# Altium integrated library CommonLib.IntLib: 219 symbols
Pins are listed as number, name and electrical type; pins without a type are passive.

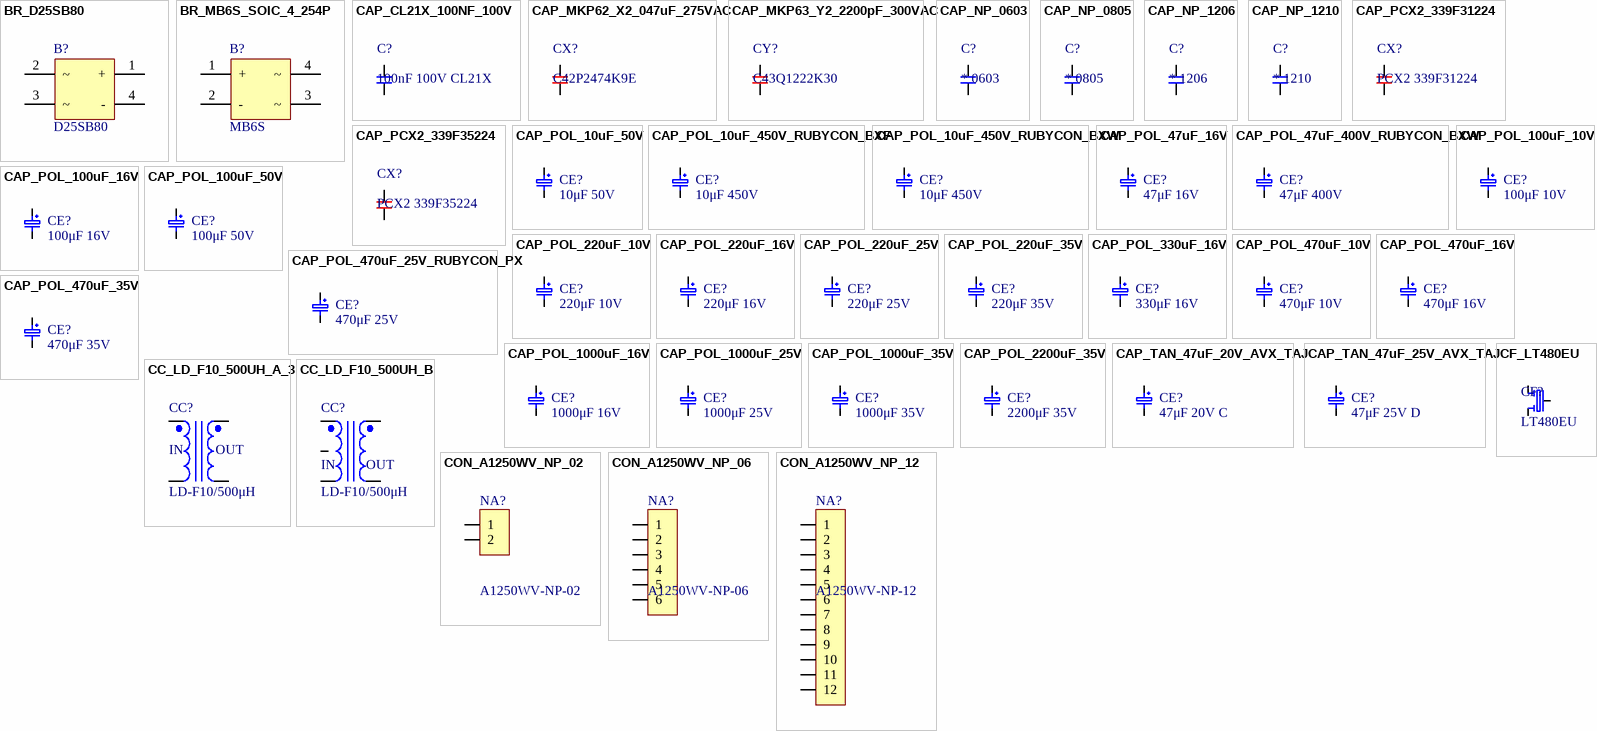
[diagram p0: symbols BR_D25SB80 to CON_A1250WV_NP_12]

## BR_D25SB80
designator B?, comment D25SB80
LRC 25A
footprint D25SBXX
pins: 1 +, 2 ~, 3 ~, 4 -

## BR_MB6S_SOIC_4_254P
designator B?, comment MB6S
Fairchild
footprint SOIC_4_254P_MBXS (SOIC_4_254P  6.2mm)
pins: 1 +, 2 -, 3 ~, 4 ~

## CAP_CL21X_100NF_100V
designator C?, comment 100nF 100V CL21X
CL21X_100NF_100V
footprint CAP_CL21X_073_040_050_D08_W
footprint CAP_CL21X_073_040_050_D08 (CL21X_073_040_050_D08)
pins: 1, 2

## CAP_MKP62_X2_047uF_275VAC
designator CX?, comment C42P2474K9E
X2 0.47uF 275VAC
footprint CAP_MKP62_265_110_225_D08 (MKP62 XiaMen Fara)
pins: 1, 2

## CAP_MKP63_Y2_2200pF_300VAC
designator CY?, comment C43Q1222K30
XiaMen FaRa Y2
footprint CAP_MKP63_105_040_090_D06 (MKP63_105_040_090_D06)
pins: 1, 2

## CAP_NP_0603
designator C?, comment * 0603
Yageo
footprint CAP_0603 (0603)
pins: 1, 2

## CAP_NP_0805
designator C?, comment * 0805
Yageo
footprint CAP_0805 (0805)
pins: 1, 2

## CAP_NP_1206
designator C?, comment * 1206
Yageo
footprint CAP_1206 (1206)
pins: 1, 2

## CAP_NP_1210
designator C?, comment * 1210
Yageo
footprint CAP_1210 (1210)
pins: 1, 2

## CAP_PCX2_339F31224
designator CX?, comment PCX2 339F31224
X2 220nF 305VAC
footprint CAP_PCX2_339_180_90_150_D08 (Pilkor PCX2 339)
pins: 1, 2

## CAP_PCX2_339F35224
designator CX?, comment PCX2 339F35224
X2 220nF 305VAC
footprint CAP_PCX2_339_180_90_150_D08_W (Pilkor PCX2 339)
pins: 1, 2

## CAP_POL_10uF_50V
designator CE?, comment 10μF 50V
Rubycon YXF 050_5_20
footprint CAP_YXF_050_5_20 (CAP POL)
pins: 1, 2

## CAP_POL_10uF_450V_RUBYCON_BXF
designator CE?, comment 10μF 450V
Rubycon YXF 050_5_20
footprint CAP_YXF_100_6_50 (CAP POL)
pins: 1, 2

## CAP_POL_10uF_450V_RUBYCON_BXW
designator CE?, comment 10μF 450V
Rubycon YXF 050_5_20
footprint CAP_YXF_100_6_50 (CAP POL)
pins: 1, 2

## CAP_POL_47uF_16V
designator CE?, comment 47μF 16V
Rubycon YXF 050_5_20
footprint CAP_YXF_050_5_20 (CAP POL)
pins: 1, 2

## CAP_POL_47uF_400V_RUBYCON_BXW
designator CE?, comment 47μF 400V
Rubycon BXW 160_8_75_X200_H
footprint CAP_BXW_160_8_75_X200_H (CAP POL)
footprint CAP_YXF_160_8_75 (CAP POL)
pins: 1, 2

## CAP_POL_100uF_10V
designator CE?, comment 100μF 10V
Rubycon YXF 050_5_20
footprint CAP_YXF_050_5_20 (CAP POL)
pins: 1, 2

## CAP_POL_100uF_16V
designator CE?, comment 100μF 16V
Rubycon YXF 063_5_25
footprint CAP_YXF_063_5_25 (CAP POL)
pins: 1, 2

## CAP_POL_100uF_50V
designator CE?, comment 100μF 50V
Rubycon YXF 080_6_35
footprint CAP_YXF_080_6_35 (CAP POL)
pins: 1, 2

## CAP_POL_220uF_10V
designator CE?, comment 220μF 10V
Rubycon YXF 063_5_25
footprint CAP_YXF_063_5_25 (CAP POL)
pins: 1, 2

## CAP_POL_220uF_16V
designator CE?, comment 220μF 16V
Rubycon YXF 080_6_35
footprint CAP_YXF_080_6_35 (CAP POL)
pins: 1, 2

## CAP_POL_220uF_25V
designator CE?, comment 220μF 25V
Rubycon YXF 080_6_35
footprint CAP_YXF_080_6_35 (CAP POL)
pins: 1, 2

## CAP_POL_220uF_35V
designator CE?, comment 220μF 35V
Rubycon YXF 100_6_50
footprint CAP_YXF_100_6_50 (CAP POL)
pins: 1, 2

## CAP_POL_330uF_16V
designator CE?, comment 330μF 16V
Rubycon YXF 080_6_35
footprint CAP_YXF_080_6_35 (CAP POL)
pins: 1, 2

## CAP_POL_470uF_10V
designator CE?, comment 470μF 10V
Rubycon YXF 080_6_35
footprint CAP_YXF_080_6_35 (CAP POL)
pins: 1, 2

## CAP_POL_470uF_16V
designator CE?, comment 470μF 16V
Rubycon YXF 080_6_35
footprint CAP_YXF_080_6_35 (CAP POL)
pins: 1, 2

## CAP_POL_470uF_25V_RUBYCON_PX
designator CE?, comment 470μF 25V
CAP_YXF_080_6_35
footprint CAP_YXF_080_6_35 (CAP POL)
pins: 1, 2

## CAP_POL_470uF_35V
designator CE?, comment 470μF 35V
Rubycon YXF 100_6_50
footprint CAP_YXF_100_6_50 (CAP POL)
pins: 1, 2

## CAP_POL_1000uF_16V
designator CE?, comment 1000μF 16V
Rubycon YXF 100_6_50
footprint CAP_YXF_100_6_50 (CAP POL)
pins: 1, 2

## CAP_POL_1000uF_25V
designator CE?, comment 1000μF 25V
Rubycon YXF 125_6_50
footprint CAP_YXF_125_6_50 (CAP POL)
pins: 1, 2

## CAP_POL_1000uF_35V
designator CE?, comment 1000μF 35V
Rubycon YXF 125_6_50
footprint CAP_YXF_125_6_50 (CAP POL)
pins: 1, 2

## CAP_POL_2200uF_35V
designator CE?, comment 2200μF 35V
Rubycon YXF 160_8_75
footprint CAP_YXF_160_8_75 (CAP POL)
pins: 1, 2

## CAP_TAN_47uF_20V_AVX_TAJ
designator CE?, comment 47μF 20V C
AVX TAJ 47μF 20V C
footprint TANTALUM_6032_28 (C 6032-28)
pins: 1, 2

## CAP_TAN_47uF_25V_AVX_TAJ
designator CE?, comment 47μF 25V D
AVX TAJ 47μF 25V D
footprint TANTALUM_7343_31 (D 7343-31)
pins: 1, 2

## CC_LD_F10_500UH_A_3
designator CC?, comment LD-F10/500μH
CC_LD_F10_500UH
footprint CC_LD_F10_500UH_A_3
pins: 1, 2, 3, 4
text: IN; OUT

## CC_LD_F10_500UH_B
designator CC?, comment LD-F10/500μH
CC_LD_F10_500UH
footprint CC_LD_F10_500UH_B
pins: 1, 2, 3, 4, 6
text: IN; OUT

## CF_LT480EU
designator CF?, comment LT480EU
CF_LT480EU
footprint CF_LT480EU
pins: 1 Input, 2 Output, 3 GND

## CON_A1250WV_NP_02
designator NA?, comment A1250WV-NP-02
JAT A1250 SERIES 1.25mm
footprint CON_A1250WV_NP_02 (JAT A1250 SERIES)
pins: 1, 2

## CON_A1250WV_NP_06
designator NA?, comment A1250WV-NP-06
JAT A1250 SERIES 1.25mm
footprint CON_A1250WV_NP_06 (JAT A1250 SERIES)
pins: 1, 2, 3, 4, 5, 6

## CON_A1250WV_NP_12
designator NA?, comment A1250WV-NP-12
JAT A1250 SERIES 1.25mm
footprint CON_A1250WV_NP_12 (JAT A1250 SERIES)
pins: 1, 2, 3, 4, 5, 6, 7, 8, 9, 10, 11, 12

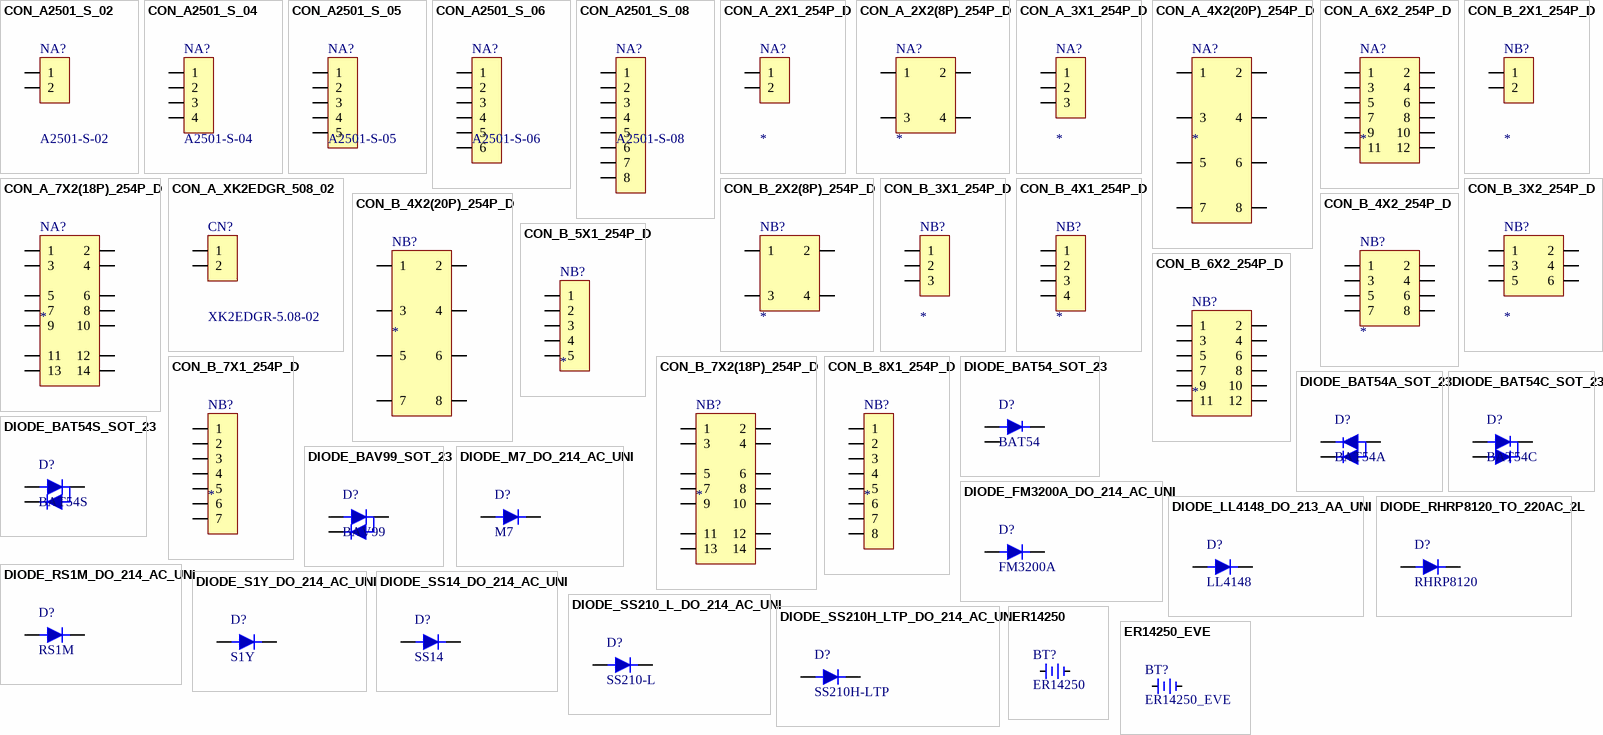
[diagram p1: symbols CON_A2501_S_02 to ER14250_EVE]

## CON_A2501_S_02
designator NA?, comment A2501-S-02
Audia A2501-S 2.50mm
footprint CON_A2501_S_02 (Audia A2501-S)
pins: 1, 2

## CON_A2501_S_04
designator NA?, comment A2501-S-04
Audia A2501-S 2.50mm
footprint CON_A2501_S_04 (Audia A2501-S)
pins: 1, 2, 3, 4

## CON_A2501_S_05
designator NA?, comment A2501-S-05
Audia A2501-S 2.50mm
footprint CON_A2501_S_05 (Audia A2501-S)
pins: 1, 2, 3, 4, 5

## CON_A2501_S_06
designator NA?, comment A2501-S-06
Audia A2501-S  2.50mm
footprint CON_A2501_S_06 (Audia A2501-S)
pins: 1, 2, 3, 4, 5, 6

## CON_A2501_S_08
designator NA?, comment A2501-S-08
Audia A2501-S 2.50mm
footprint CON_A2501_S_08 (Audia A2501-S)
pins: 1, 2, 3, 4, 5, 6, 7, 8

## CON_A_2X1_254P_D
designator NA?
Audia Series 460 25
footprint CON_A_2X1_254P_D (Audia Series 460 25)
pins: 1, 2

## CON_A_2X2(8P)_254P_D
designator NA?
Audia Series 460 25
footprint CON_A_2X2(8P)_254P_D (Audia Series 460 25)
pins: 1, 2, 3, 4

## CON_A_3X1_254P_D
designator NA?
Audia Series 460 25
footprint CON_A_3X1_254P_D (Audia Series 460 25)
pins: 1, 2, 3

## CON_A_4X2(20P)_254P_D
designator NA?
Audia Series 460 25
footprint CON_A_4X2(20P)_254P_D (Audia Series 460 25)
pins: 1, 2, 3, 4, 5, 6, 7, 8

## CON_A_6X2_254P_D
designator NA?
Audia Series 460 25
footprint CON_A_6X2_254P_D (Audia Series 460 25)
pins: 1, 2, 3, 4, 5, 6, 7, 8, 9, 10, 11, 12

## CON_A_7X2(18P)_254P_D
designator NA?
Audia Series 460 25
footprint CON_A_7X2(18P)_254P_D (Audia Series 460 25)
pins: 1, 2, 3, 4, 5, 6, 7, 8, 9, 10, 11, 12, 13, 14

## CON_A_XK2EDGR_508_02
designator CN?, comment XK2EDGR-5.08-02
DXXKDZ XK2EDGR-5.08
footprint CON_A_XK2EDGR_508_02 (XK2EDGR-5.08-02)
pins: 1, 2

## CON_B_2X1_254P_D
designator NB?
Audia Series 47Y 25
footprint CON_B_2X1_254P_D (Audia Series 460 25)
pins: 1, 2

## CON_B_2X2(8P)_254P_D
designator NB?
Audia Series 47Y 25
footprint CON_B_2X2(8P)_254P_D (Audia Series 47Y 25)
pins: 1, 2, 3, 4

## CON_B_3X1_254P_D
designator NB?
Audia Series 47Y 25
footprint CON_B_3X1_254P_D (Audia Series 460 25)
pins: 1, 2, 3

## CON_B_3X2_254P_D
designator NB?
Audia Series 47Y 25
footprint CON_B_3X2_254P_D (Audia Series 47Y 25)
pins: 1, 2, 3, 4, 5, 6

## CON_B_4X1_254P_D
designator NB?
Audia Series 47Y 25
footprint CON_B_4X1_254P_D (Audia Series 47Y 25)
pins: 1, 2, 3, 4

## CON_B_4X2(20P)_254P_D
designator NB?
Audia Series 47Y 25
footprint CON_B_4X2(20P)_254P_D (Audia Series 47Y 25)
pins: 1, 2, 3, 4, 5, 6, 7, 8

## CON_B_4X2_254P_D
designator NB?
Audia Series 47Y 25
footprint CON_B_4X2_254P_D (Audia Series 47Y 25)
pins: 1, 2, 3, 4, 5, 6, 7, 8

## CON_B_5X1_254P_D
designator NB?
Audia Series 47Y 25
footprint CON_B_5X1_254P_D (Audia Series 47Y 25)
pins: 1, 2, 3, 4, 5

## CON_B_6X2_254P_D
designator NB?
Audia Series 47Y 25
footprint CON_B_6X2_254P_D (Audia Series 47Y 25)
pins: 1, 2, 3, 4, 5, 6, 7, 8, 9, 10, 11, 12

## CON_B_7X1_254P_D
designator NB?
Audia Series 47Y 25
footprint CON_B_7X1_254P_D (Audia Series 47Y 25)
pins: 1, 2, 3, 4, 5, 6, 7

## CON_B_7X2(18P)_254P_D
designator NB?
Audia Series 47Y 25
footprint CON_B_7X2(18P)_254P_D (Audia Series 47Y 25)
pins: 1, 2, 3, 4, 5, 6, 7, 8, 9, 10, 11, 12, 13, 14

## CON_B_8X1_254P_D
designator NB?
Audia Series 47Y 25
footprint CON_B_8X1_254P_D (Audia Series 47Y 25)
pins: 1, 2, 3, 4, 5, 6, 7, 8

## DIODE_BAT54_SOT_23
designator D?, comment BAT54
SOT_23
footprint SOT_23_BAT54 (SOT_23)
pins: 1, 2, 3

## DIODE_BAT54A_SOT_23
designator D?, comment BAT54A
SOT_23
footprint SOT_23_BAT54 (SOT_23)
pins: 1, 2, 3

## DIODE_BAT54C_SOT_23
designator D?, comment BAT54C
SOT_23
footprint SOT_23_BAT54 (SOT_23)
pins: 1, 2, 3

## DIODE_BAT54S_SOT_23
designator D?, comment BAT54S
SOT_23
footprint SOT_23_BAT54 (SOT_23)
pins: 1, 2, 3

## DIODE_BAV99_SOT_23
designator D?, comment BAV99
NXP
footprint SOT_23_BAV99 (SOT_23)
pins: 1, 2, 3

## DIODE_FM3200A_DO_214_AC_UNI
designator D?, comment FM3200A
RECTRON SMT Schottky Barrier Rectifier Diode
footprint DO_214_AC_UNI (DO_214_AC SMA)
pins: 1, 2

## DIODE_LL4148_DO_213_AA_UNI
designator D?, comment LL4148
DO_213_AA_UNI
footprint DO_213_AA_UNI (Mini-MELF  DO213-AA  LL-34  SOD-80)
pins: 1, 2

## DIODE_M7_DO_214_AC_UNI
designator D?, comment M7
Star Sea
footprint DO_214_AC_UNI (DO_214_AC SMA)
pins: 1, 2

## DIODE_RHRP8120_TO_220AC_2L
designator D?, comment RHRP8120
ON Semiconductor
footprint TO_220AC_2L_RHRP8120
pins: 1, 2

## DIODE_RS1M_DO_214_AC_UNI
designator D?, comment RS1M
ON Semiconductor
footprint DO_214_AC_UNI (DO_214_AC SMA)
pins: 1, 2

## DIODE_S1Y_DO_214_AC_UNI
designator D?, comment S1Y
DIOTEC
footprint DO_214_AC_UNI (DO_214_AC SMA)
pins: 1, 2

## DIODE_SS14_DO_214_AC_UNI
designator D?, comment SS14
YangJie Schottky Rectifier
footprint DO_214_AC_UNI (DO_214_AC SMA)
pins: 1, 2

## DIODE_SS210_L_DO_214_AC_UNI
designator D?, comment SS210-L
.M.C.C.
footprint DO_214_AC_UNI (DO_214_AC SMA)
pins: 1, 2

## DIODE_SS210H_LTP_DO_214_AC_UNI
designator D?, comment SS210H-LTP
.M.C.C.
footprint DO_214_AC_UNI (DO_214_AC SMA)
pins: 1, 2

## ER14250
designator BT?
footprint ER14250
pins: 1, 2

## ER14250_EVE
designator BT?
ER14250
footprint ER14250_EVE (ER14250)
pins: 1, 2

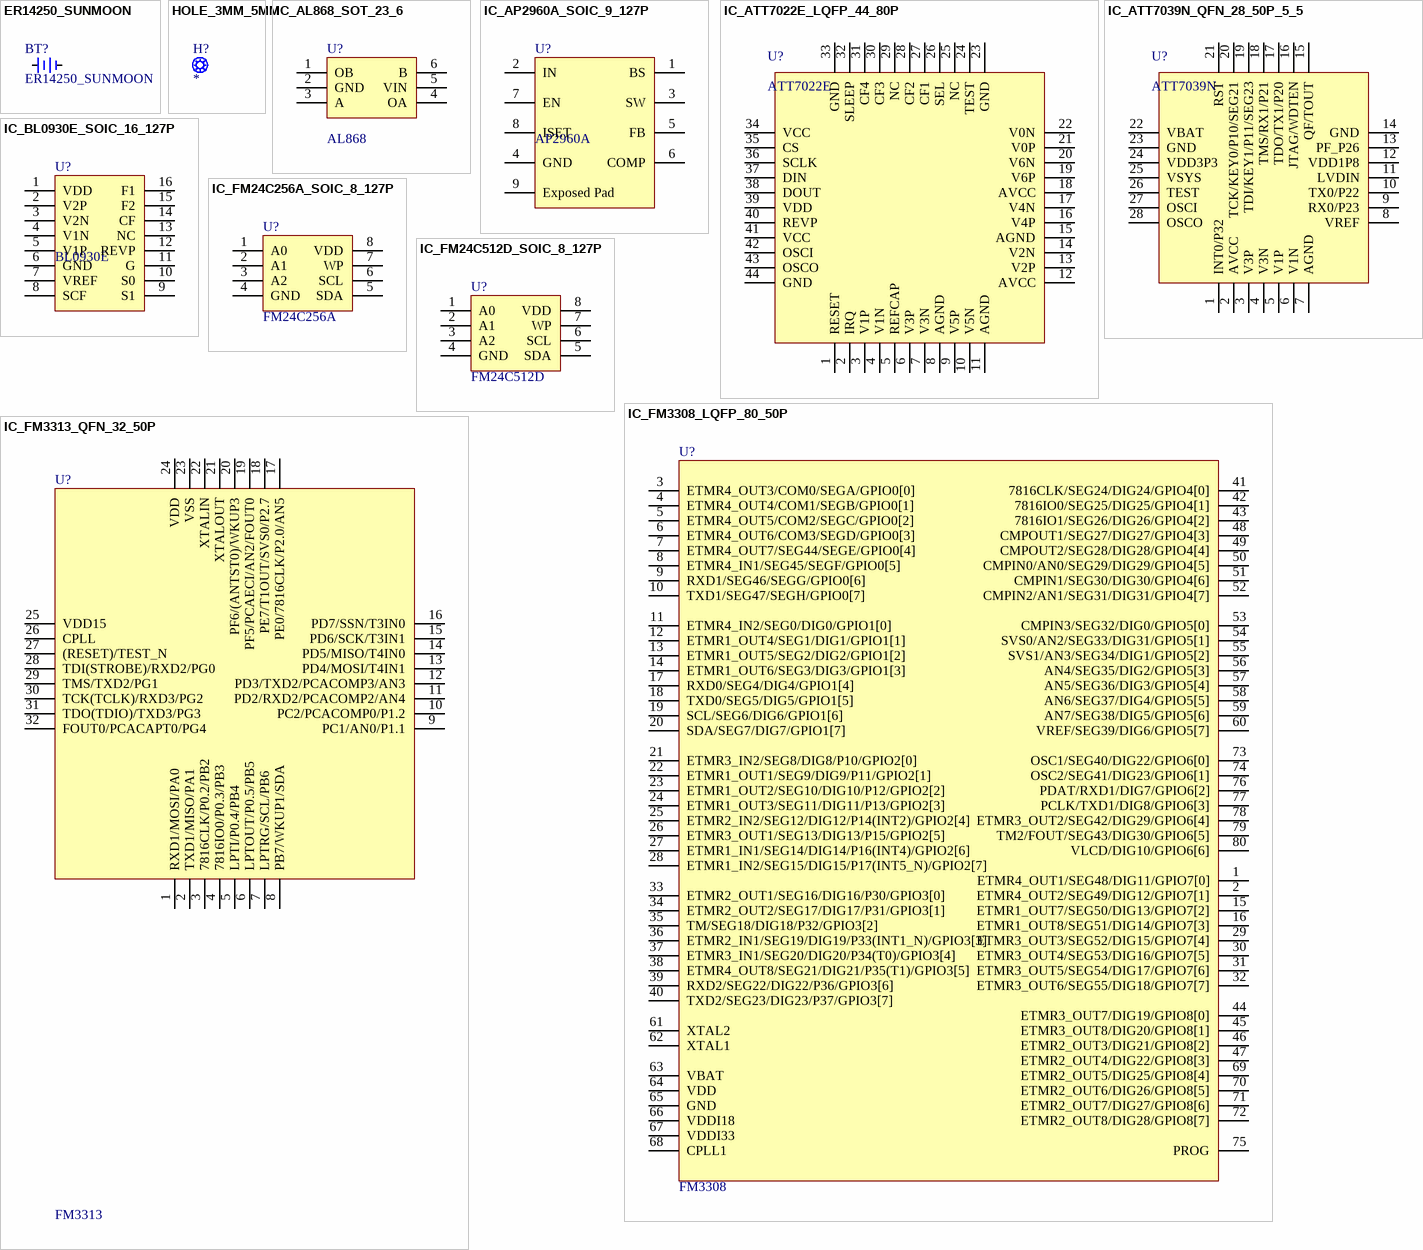
[diagram p2: symbols ER14250_SUNMOON to IC_FM3313_QFN_32_50P]

## ER14250_SUNMOON
designator BT?
ER14250
footprint ER14250_SUNMOON (ER14250)
pins: 1, 2

## HOLE_3MM_5MM
designator H?  (no BOM)
HOLE_3mm_5mm
footprint HOLE_3MM_5MM (HOLE_3mm_5mm)

## IC_AL868_SOT_23_6
designator U?, comment AL868
SOT_23_6
footprint SOT_23_6_AL868 (SOT_23_6)
pins: 1 OB, 2 GND, 3 A, 4 OA, 5 VIN, 6 B

## IC_AP2960A_SOIC_9_127P
designator U?, comment AP2960A
Chipown DC-DC
footprint SOIC_9_127P_AP2960A (SOIC_9_127P)
pins: 1 BS, 2 IN, 3 SW, 4 GND, 5 FB, 6 COMP, 7 EN, 8 ISET, 9 Exposed Pad

## IC_ATT7022E_LQFP_44_80P
designator U?, comment ATT7022E
HiTrendtech EM
footprint LQFP_44_80P_ATT7022E (LQFP_44_80P_12_12)
pins: 1 RESET, 2 IRQ, 3 V1P, 4 V1N, 5 REFCAP, 6 V3P, 7 V3N, 8 AGND, 9 V5P, 10 V5N, 11 AGND, 12 AVCC, 13 V2P, 14 V2N, 15 AGND, 16 V4P, 17 V4N, 18 AVCC, 19 V6P, 20 V6N, 21 V0P, 22 V0N, 23 GND, 24 TEST, 25 NC, 26 SEL, 27 CF1, 28 CF2, 29 NC, 30 CF3, 31 CF4, 32 SLEEP, 33 GND, 34 VCC, 35 CS, 36 SCLK, 37 DIN, 38 DOUT, 39 VDD, 40 REVP, 41 VCC, 42 OSCI, 43 OSCO, 44 GND

## IC_ATT7039N_QFN_28_50P_5_5
designator U?, comment ATT7039N
HiTrendtech SOC
footprint QFN_28_50P_ATT7039N (QFN_28_50P_5_5)
pins: 1 INT0/P32, 2 AVCC, 3 V3P, 4 V3N, 5 V1P, 6 V1N, 7 AGND, 8 VREF, 9 RX0/P23, 10 TX0/P22, 11 LVDIN, 12 VDD1P8, 13 PF_P26, 14 GND, 15 QF/TOUT, 16 JTAG/WDTEN, 17 TDO/TX1/P20, 18 TMS/RX1/P21, 19 TDI/KEY1/P11/SEG23, 20 TCK/KEY0/P10/SEG21, 21 RST, 22 VBAT, 23 GND, 24 VDD3P3, 25 VSYS, 26 TEST, 27 OSCI, 28 OSCO

## IC_BL0930E_SOIC_16_127P
designator U?, comment BL0930E
SOIC_16_127P
footprint SOIC_16_127P_BL0930E (SOIC_16_127P)
pins: 1 VDD, 2 V2P, 3 V2N, 4 V1N, 5 V1P, 6 GND, 7 VREF, 8 SCF, 9 S1, 10 S0, 11 G, 12 REVP, 13 NC, 14 CF, 15 F2, 16 F1

## IC_FM24C256A_SOIC_8_127P
designator U?, comment FM24C256A
FMSH EEPROM
footprint SOIC_8_127P_FM24C256A (SOIC_8_127P)
pins: 1 A0, 2 A1, 3 A2, 4 GND, 5 SDA, 6 SCL, 7 WP, 8 VDD

## IC_FM24C512D_SOIC_8_127P
designator U?, comment FM24C512D
FMSH EEPROM
footprint SOIC_8_127P_FM24C512D (SOIC_8_127P)
pins: 1 A0, 2 A1, 3 A2, 4 GND, 5 SDA, 6 SCL, 7 WP, 8 VDD

## IC_FM3308_LQFP_80_50P
designator U?, comment FM3308
FMSH MCU
footprint LQFP_80_50P_FM3308 (LQFP_80_50P_14_14)
pins: 1 ETMR4_OUT1/SEG48/DIG11/GPIO7[0], 2 ETMR4_OUT2/SEG49/DIG12/GPIO7[1], 3 ETMR4_OUT3/COM0/SEGA/GPIO0[0], 4 ETMR4_OUT4/COM1/SEGB/GPIO0[1], 5 ETMR4_OUT5/COM2/SEGC/GPIO0[2], 6 ETMR4_OUT6/COM3/SEGD/GPIO0[3], 7 ETMR4_OUT7/SEG44/SEGE/GPIO0[4], 8 ETMR4_IN1/SEG45/SEGF/GPIO0[5], 9 RXD1/SEG46/SEGG/GPIO0[6], 10 TXD1/SEG47/SEGH/GPIO0[7], 11 ETMR4_IN2/SEG0/DIG0/GPIO1[0], 12 ETMR1_OUT4/SEG1/DIG1/GPIO1[1], 13 ETMR1_OUT5/SEG2/DIG2/GPIO1[2], 14 ETMR1_OUT6/SEG3/DIG3/GPIO1[3], 15 ETMR1_OUT7/SEG50/DIG13/GPIO7[2], 16 ETMR1_OUT8/SEG51/DIG14/GPIO7[3], 17 RXD0/SEG4/DIG4/GPIO1[4], 18 TXD0/SEG5/DIG5/GPIO1[5], 19 SCL/SEG6/DIG6/GPIO1[6], 20 SDA/SEG7/DIG7/GPIO1[7], 21 ETMR3_IN2/SEG8/DIG8/P10/GPIO2[0], 22 ETMR1_OUT1/SEG9/DIG9/P11/GPIO2[1], 23 ETMR1_OUT2/SEG10/DIG10/P12/GPIO2[2], 24 ETMR1_OUT3/SEG11/DIG11/P13/GPIO2[3], 25 ETMR2_IN2/SEG12/DIG12/P14(INT2)/GPIO2[4], 26 ETMR3_OUT1/SEG13/DIG13/P15/GPIO2[5], 27 ETMR1_IN1/SEG14/DIG14/P16(INT4)/GPIO2[6], 28 ETMR1_IN2/SEG15/DIG15/P17(INT5_N)/GPIO2[7], 29 ETMR3_OUT3/SEG52/DIG15/GPIO7[4], 30 ETMR3_OUT4/SEG53/DIG16/GPIO7[5], 31 ETMR3_OUT5/SEG54/DIG17/GPIO7[6], 32 ETMR3_OUT6/SEG55/DIG18/GPIO7[7], 33 ETMR2_OUT1/SEG16/DIG16/P30/GPIO3[0], 34 ETMR2_OUT2/SEG17/DIG17/P31/GPIO3[1], 35 TM/SEG18/DIG18/P32/GPIO3[2], 36 ETMR2_IN1/SEG19/DIG19/P33(INT1_N)/GPIO3[3], 37 ETMR3_IN1/SEG20/DIG20/P34(T0)/GPIO3[4], 38 ETMR4_OUT8/SEG21/DIG21/P35(T1)/GPIO3[5], 39 RXD2/SEG22/DIG22/P36/GPIO3[6], 40 TXD2/SEG23/DIG23/P37/GPIO3[7], 41 7816CLK/SEG24/DIG24/GPIO4[0], 42 7816IO0/SEG25/DIG25/GPIO4[1], 43 7816IO1/SEG26/DIG26/GPIO4[2], 44 ETMR3_OUT7/DIG19/GPIO8[0], 45 ETMR3_OUT8/DIG20/GPIO8[1], 46 ETMR2_OUT3/DIG21/GPIO8[2], 47 ETMR2_OUT4/DIG22/GPIO8[3], 48 CMPOUT1/SEG27/DIG27/GPIO4[3], 49 CMPOUT2/SEG28/DIG28/GPIO4[4], 50 CMPIN0/AN0/SEG29/DIG29/GPIO4[5], 51 CMPIN1/SEG30/DIG30/GPIO4[6], 52 CMPIN2/AN1/SEG31/DIG31/GPIO4[7], 53 CMPIN3/SEG32/DIG0/GPIO5[0], 54 SVS0/AN2/SEG33/DIG31/GPIO5[1], 55 SVS1/AN3/SEG34/DIG1/GPIO5[2], 56 AN4/SEG35/DIG2/GPIO5[3], 57 AN5/SEG36/DIG3/GPIO5[4], 58 AN6/SEG37/DIG4/GPIO5[5], 59 AN7/SEG38/DIG5/GPIO5[6], 60 VREF/SEG39/DIG6/GPIO5[7], 61 XTAL2, 62 XTAL1, 63 VBAT, 64 VDD, 65 GND, 66 VDDI18, 67 VDDI33, 68 CPLL1, 69 ETMR2_OUT5/DIG25/GPIO8[4], 70 ETMR2_OUT6/DIG26/GPIO8[5], 71 ETMR2_OUT7/DIG27/GPIO8[6], 72 ETMR2_OUT8/DIG28/GPIO8[7], 73 OSC1/SEG40/DIG22/GPIO6[0], 74 OSC2/SEG41/DIG23/GPIO6[1], 75 PROG, 76 PDAT/RXD1/DIG7/GPIO6[2], 77 PCLK/TXD1/DIG8/GPIO6[3], 78 ETMR3_OUT2/SEG42/DIG29/GPIO6[4], 79 TM2/FOUT/SEG43/DIG30/GPIO6[5], 80 VLCD/DIG10/GPIO6[6]

## IC_FM3313_QFN_32_50P
designator U?, comment FM3313
FMSH MCU
footprint QFN_32_50P_FM3313 (QFN_32_50P_5_5)
pins: 1 RXD1/MOSI/PA0, 2 TXD1/MISO/PA1, 3 7816CLK/P0.2/PB2, 4 7816IO0/P0.3/PB3, 5 LPTI/P0.4/PB4, 6 LPTOUT/P0.5/PB5, 7 LPTRG/SCL/PB6, 8 PB7/WKUP1/SDA, 9 PC1/AN0/P1.1, 10 PC2/PCACOMP0/P1.2, 11 PD2/RXD2/PCACOMP2/AN4, 12 PD3/TXD2/PCACOMP3/AN3, 13 PD4/MOSI/T4IN1, 14 PD5/MISO/T4IN0, 15 PD6/SCK/T3IN1, 16 PD7/SSN/T3IN0, 17 PE0/7816CLK/P2.0/AN5, 18 PE7/T1OUT/SVS0/P2.7, 19 PF5/PCAECI/AN2/FOUT0, 20 PF6/(ANTST0)/WKUP3, 21 XTALOUT, 22 XTALIN, 23 VSS, 24 VDD, 25 VDD15, 26 CPLL, 27 (RESET)/TEST_N, 28 TDI(STROBE)/RXD2/PG0, 29 TMS/TXD2/PG1, 30 TCK(TCLK)/RXD3/PG2, 31 TDO(TDIO)/TXD3/PG3, 32 FOUT0/PCACAPT0/PG4

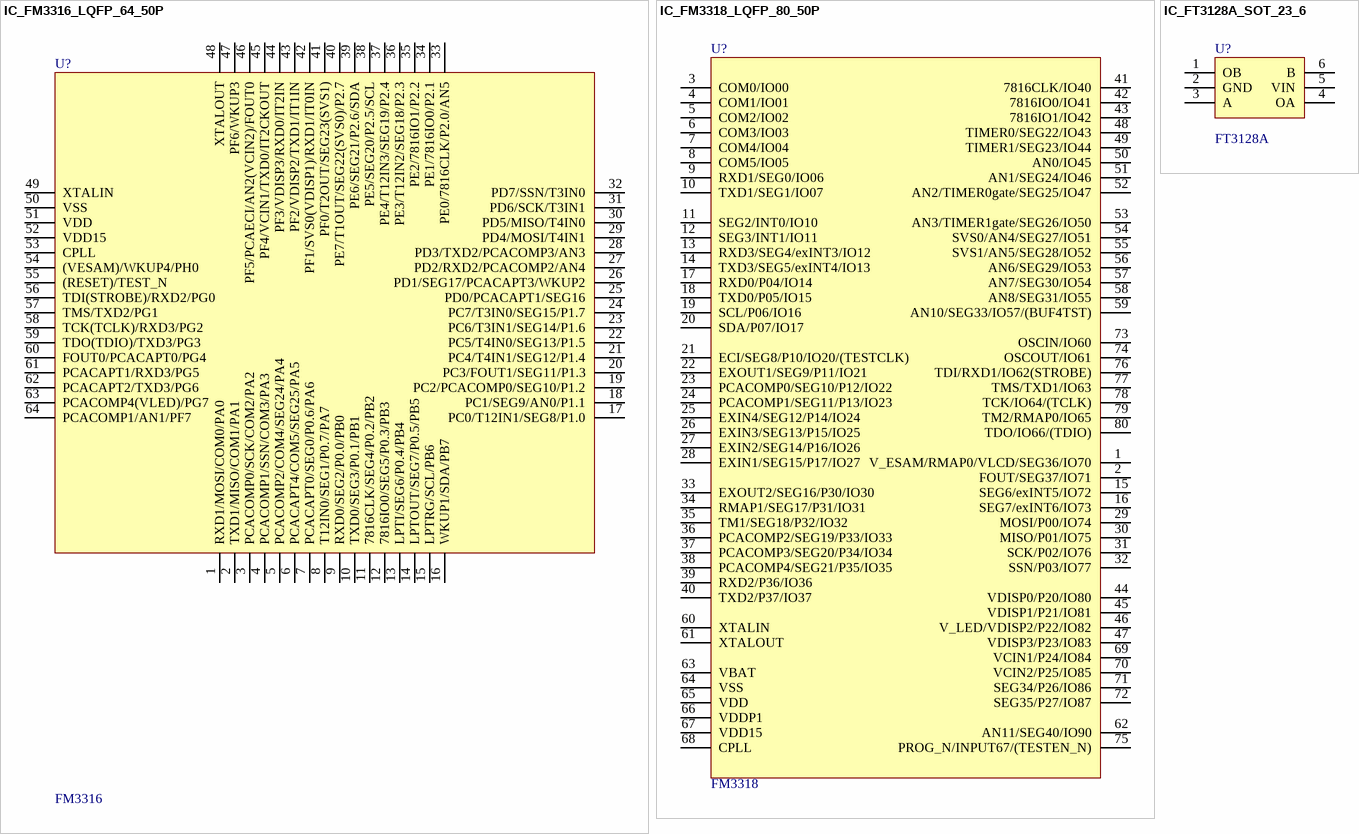
[diagram p3: symbols IC_FM3316_LQFP_64_50P to IC_FT3128A_SOT_23_6]

## IC_FM3316_LQFP_64_50P
designator U?, comment FM3316
FMSH MCU
footprint LQFP_64_50P_FM3316 (LQFP_64_50P)
pins: 1 RXD1/MOSI/COM0/PA0, 2 TXD1/MISO/COM1/PA1, 3 PCACOMP0/SCK/COM2/PA2, 4 PCACOMP1/SSN/COM3/PA3, 5 PCACOMP2/COM4/SEG24/PA4, 6 PCACAPT4/COM5/SEG25/PA5, 7 PCACAPT0/SEG0/P0.6/PA6, 8 T12IN0/SEG1/P0.7/PA7, 9 RXD0/SEG2/P0.0/PB0, 10 TXD0/SEG3/P0.1/PB1, 11 7816CLK/SEG4/P0.2/PB2, 12 7816IO0/SEG5/P0.3/PB3, 13 LPTI/SEG6/P0.4/PB4, 14 LPTOUT/SEG7/P0.5/PB5, 15 LPTRG/SCL/PB6, 16 WKUP1/SDA/PB7, 17 PC0/T12IN1/SEG8/P1.0, 18 PC1/SEG9/AN0/P1.1, 19 PC2/PCACOMP0/SEG10/P1.2, 20 PC3/FOUT1/SEG11/P1.3, 21 PC4/T4IN1/SEG12/P1.4, 22 PC5/T4IN0/SEG13/P1.5, 23 PC6/T3IN1/SEG14/P1.6, 24 PC7/T3IN0/SEG15/P1.7, 25 PD0/PCACAPT1/SEG16, 26 PD1/SEG17/PCACAPT3/WKUP2, 27 PD2/RXD2/PCACOMP2/AN4, 28 PD3/TXD2/PCACOMP3/AN3, 29 PD4/MOSI/T4IN1, 30 PD5/MISO/T4IN0, 31 PD6/SCK/T3IN1, 32 PD7/SSN/T3IN0, 33 PE0/7816CLK/P2.0/AN5, 34 PE1/7816IO0/P2.1, 35 PE2/7816IO1/P2.2, 36 PE3/T12IN2/SEG18/P2.3, 37 PE4/T12IN3/SEG19/P2.4, 38 PE5/SEG20/P2.5/SCL, 39 PE6/SEG21/P2.6/SDA, 40 PE7/T1OUT/SEG22(SVS0)/P2.7, 41 PF0/T2OUT/SEG23(SVS1), 42 PF1/SVS0(VDISP1)/RXD1/IT0IN, 43 PF2/VDISP2/TXD1/IT1IN, 44 PF3/VDISP3/RXD0/IT2IN, 45 PF4/VCIN1/TXD0/IT2CKOUT, 46 PF5/PCAECI/AN2(VCIN2)/FOUT0, 47 PF6/WKUP3, 48 XTALOUT, 49 XTALIN, 50 VSS, 51 VDD, 52 VDD15, 53 CPLL, 54 (VESAM)/WKUP4/PH0, 55 (RESET)/TEST_N, 56 TDI(STROBE)/RXD2/PG0, 57 TMS/TXD2/PG1, 58 TCK(TCLK)/RXD3/PG2, 59 TDO(TDIO)/TXD3/PG3, 60 FOUT0/PCACAPT0/PG4, 61 PCACAPT1/RXD3/PG5, 62 PCACAPT2/TXD3/PG6, 63 PCACOMP4(VLED)/PG7, 64 PCACOMP1/AN1/PF7

## IC_FM3318_LQFP_80_50P
designator U?, comment FM3318
FMSH MCU
footprint LQFP_80_50P_FM3318 (LQFP_80_50P_14_14)
pins: 1 V_ESAM/RMAP0/VLCD/SEG36/IO70, 2 FOUT/SEG37/IO71, 3 COM0/IO00, 4 COM1/IO01, 5 COM2/IO02, 6 COM3/IO03, 7 COM4/IO04, 8 COM5/IO05, 9 RXD1/SEG0/IO06, 10 TXD1/SEG1/IO07, 11 SEG2/INT0/IO10, 12 SEG3/INT1/IO11, 13 RXD3/SEG4/exINT3/IO12, 14 TXD3/SEG5/exINT4/IO13, 15 SEG6/exINT5/IO72, 16 SEG7/exINT6/IO73, 17 RXD0/P04/IO14, 18 TXD0/P05/IO15, 19 SCL/P06/IO16, 20 SDA/P07/IO17, 21 ECI/SEG8/P10/IO20/(TESTCLK), 22 EXOUT1/SEG9/P11/IO21, 23 PCACOMP0/SEG10/P12/IO22, 24 PCACOMP1/SEG11/P13/IO23, 25 EXIN4/SEG12/P14/IO24, 26 EXIN3/SEG13/P15/IO25, 27 EXIN2/SEG14/P16/IO26, 28 EXIN1/SEG15/P17/IO27, 29 MOSI/P00/IO74, 30 MISO/P01/IO75, 31 SCK/P02/IO76, 32 SSN/P03/IO77, 33 EXOUT2/SEG16/P30/IO30, 34 RMAP1/SEG17/P31/IO31, 35 TM1/SEG18/P32/IO32, 36 PCACOMP2/SEG19/P33/IO33, 37 PCACOMP3/SEG20/P34/IO34, 38 PCACOMP4/SEG21/P35/IO35, 39 RXD2/P36/IO36, 40 TXD2/P37/IO37, 41 7816CLK/IO40, 42 7816IO0/IO41, 43 7816IO1/IO42, 44 VDISP0/P20/IO80, 45 VDISP1/P21/IO81, 46 V_LED/VDISP2/P22/IO82, 47 VDISP3/P23/IO83, 48 TIMER0/SEG22/IO43, 49 TIMER1/SEG23/IO44, 50 AN0/IO45, 51 AN1/SEG24/IO46, 52 AN2/TIMER0gate/SEG25/IO47, 53 AN3/TIMER1gate/SEG26/IO50, 54 SVS0/AN4/SEG27/IO51, 55 SVS1/AN5/SEG28/IO52, 56 AN6/SEG29/IO53, 57 AN7/SEG30/IO54, 58 AN8/SEG31/IO55, 59 AN10/SEG33/IO57/(BUF4TST), 60 XTALIN, 61 XTALOUT, 62 AN11/SEG40/IO90, 63 VBAT, 64 VSS, 65 VDD, 66 VDDP1, 67 VDD15, 68 CPLL, 69 VCIN1/P24/IO84, 70 VCIN2/P25/IO85, 71 SEG34/P26/IO86, 72 SEG35/P27/IO87, 73 OSCIN/IO60, 74 OSCOUT/IO61, 75 PROG_N/INPUT67/(TESTEN_N), 76 TDI/RXD1/IO62(STROBE), 77 TMS/TXD1/IO63, 78 TCK/IO64/(TCLK), 79 TM2/RMAP0/IO65, 80 TDO/IO66/(TDIO)

## IC_FT3128A_SOT_23_6
designator U?, comment FT3128A
SOT_23_6
footprint SOT_23_6_FT3128A (SOT_23_6)
pins: 1 OB, 2 GND, 3 A, 4 OA, 5 VIN, 6 B

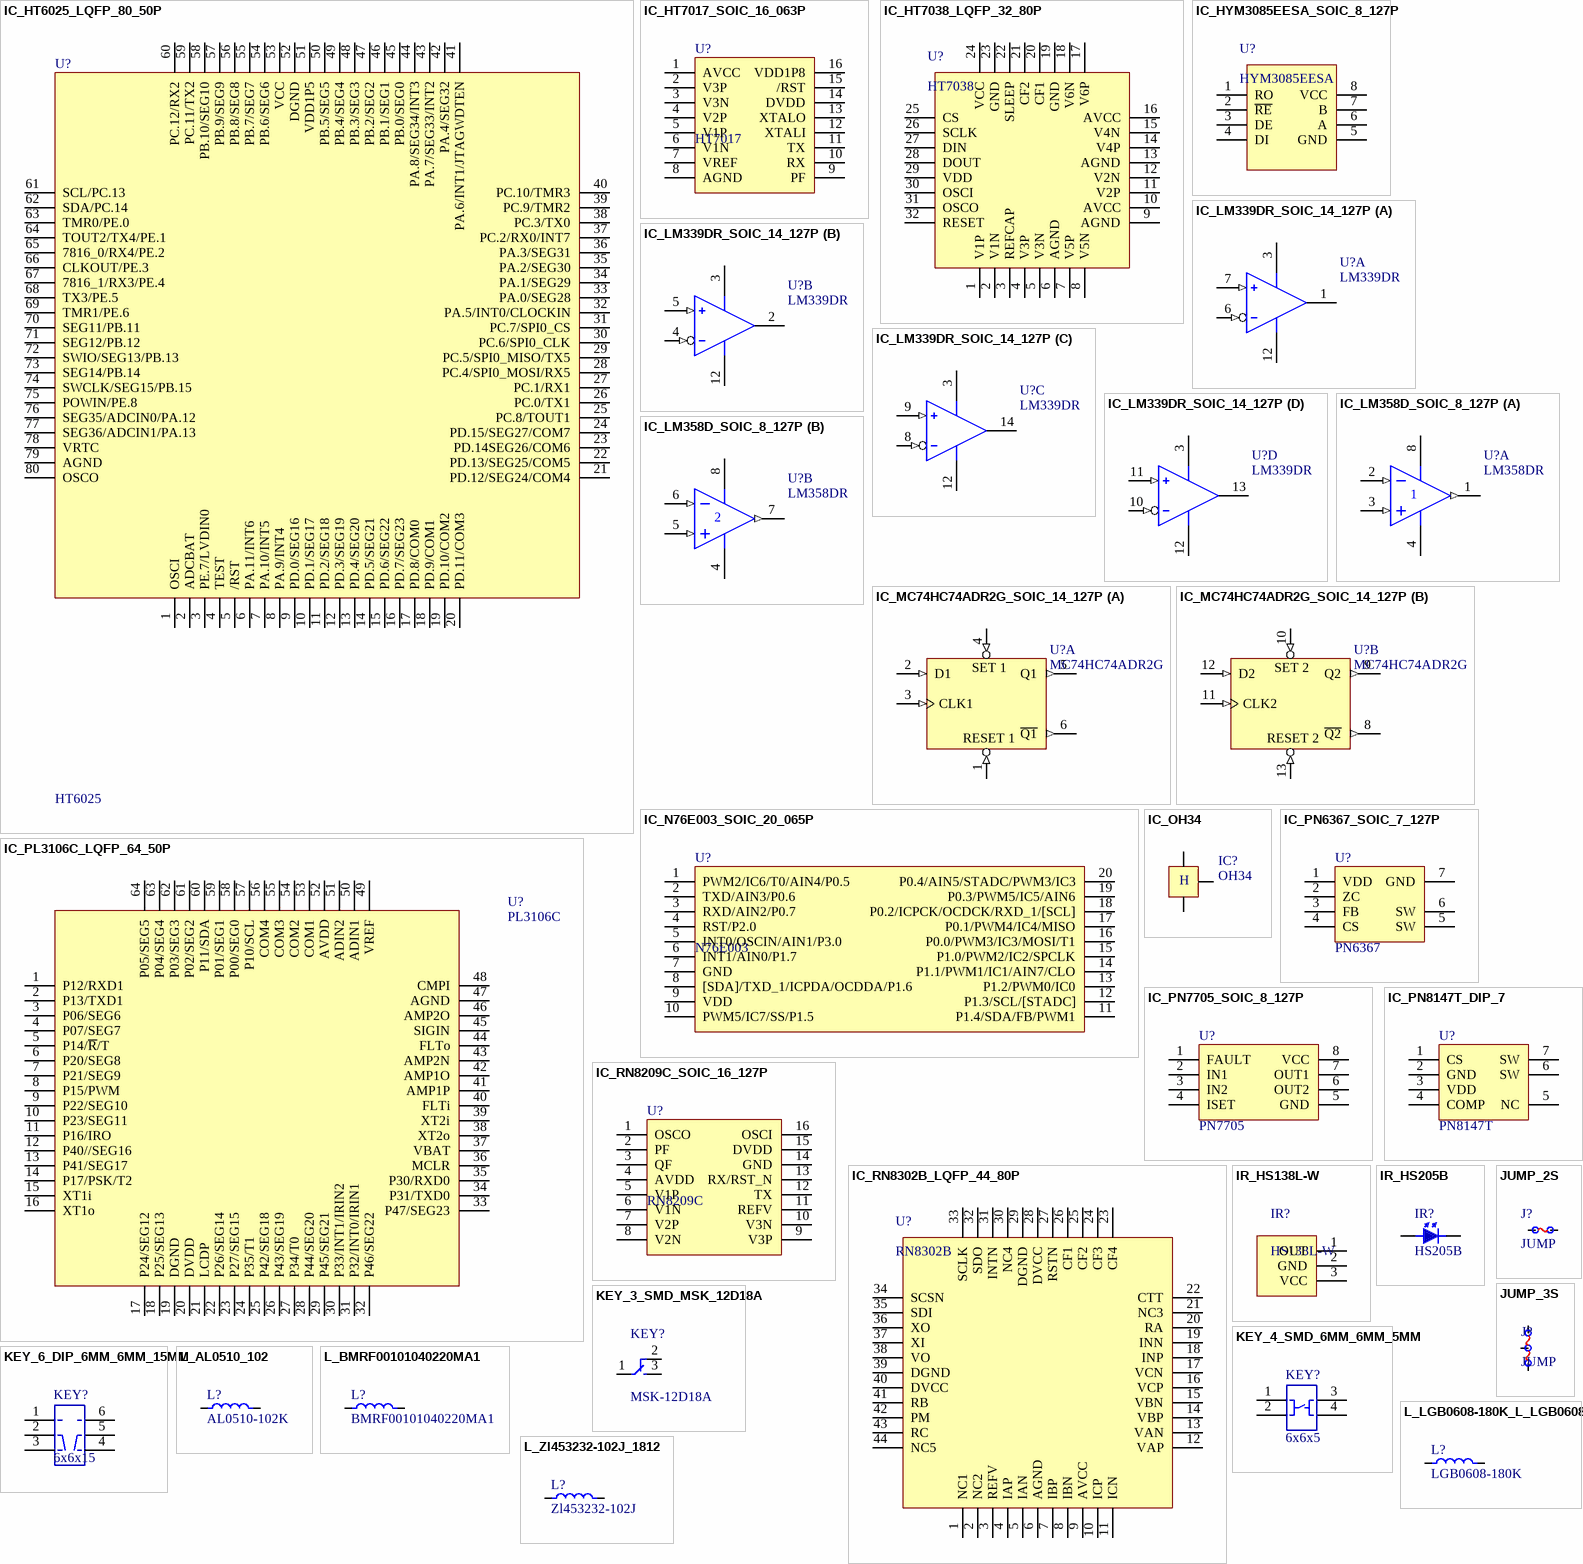
[diagram p4: symbols IC_HT6025_LQFP_80_50P to L_Zl453232-102J_1812]

## IC_HT6025_LQFP_80_50P
designator U?, comment HT6025
LQFP_80_50P_14_14
footprint LQFP_80_50P_HT6025 (LQFP_80_50P_14_14)
pins: 1 OSCI, 2 ADCBAT, 3 PE.7/LVDIN0, 4 TEST, 5 /RST, 6 PA.11/INT6, 7 PA.10/INT5, 8 PA.9/INT4, 9 PD.0/SEG16, 10 PD.1/SEG17, 11 PD.2/SEG18, 12 PD.3/SEG19, 13 PD.4/SEG20, 14 PD.5/SEG21, 15 PD.6/SEG22, 16 PD.7/SEG23, 17 PD.8/COM0, 18 PD.9/COM1, 19 PD.10/COM2, 20 PD.11/COM3, 21 PD.12/SEG24/COM4, 22 PD.13/SEG25/COM5, 23 PD.14SEG26/COM6, 24 PD.15/SEG27/COM7, 25 PC.8/TOUT1, 26 PC.0/TX1, 27 PC.1/RX1, 28 PC.4/SPI0_MOSI/RX5, 29 PC.5/SPI0_MISO/TX5, 30 PC.6/SPI0_CLK, 31 PC.7/SPI0_CS, 32 PA.5/INT0/CLOCKIN, 33 PA.0/SEG28, 34 PA.1/SEG29, 35 PA.2/SEG30, 36 PA.3/SEG31, 37 PC.2/RX0/INT7, 38 PC.3/TX0, 39 PC.9/TMR2, 40 PC.10/TMR3, 41 PA.6/INT1/JTAGWDTEN, 42 PA.4/SEG32, 43 PA.7/SEG33/INT2, 44 PA.8/SEG34/INT3, 45 PB.0/SEG0, 46 PB.1/SEG1, 47 PB.2/SEG2, 48 PB.3/SEG3, 49 PB.4/SEG4, 50 PB.5/SEG5, 51 VDD1P5, 52 DGND, 53 VCC, 54 PB.6/SEG6, 55 PB.7/SEG7, 56 PB.8/SEG8, 57 PB.9/SEG9, 58 PB.10/SEG10, 59 PC.11/TX2, 60 PC.12/RX2, 61 SCL/PC.13, 62 SDA/PC.14, 63 TMR0/PE.0, 64 TOUT2/TX4/PE.1, 65 7816_0/RX4/PE.2, 66 CLKOUT/PE.3, 67 7816_1/RX3/PE.4, 68 TX3/PE.5, 69 TMR1/PE.6, 70 SEG11/PB.11, 71 SEG12/PB.12, 72 SWIO/SEG13/PB.13, 73 SEG14/PB.14, 74 SWCLK/SEG15/PB.15, 75 POWIN/PE.8, 76 SEG35/ADCIN0/PA.12, 77 SEG36/ADCIN1/PA.13, 78 VRTC, 79 AGND, 80 OSCO

## IC_HT7017_SOIC_16_063P
designator U?, comment HT7017
SOIC_16_063P
footprint SOIC_16_063P_HT7017 (SOIC_16_063P)
pins: 1 AVCC, 2 V3P, 3 V3N, 4 V2P, 5 V1P, 6 V1N, 7 VREF, 8 AGND, 9 PF, 10 RX, 11 TX, 12 XTALI, 13 XTALO, 14 DVDD, 15 /RST, 16 VDD1P8

## IC_HT7038_LQFP_32_80P
designator U?, comment HT7038
HiTrendtech EM
footprint LQFP_32_80P_HT7038 (LQFP_32_80P_9_9)
pins: 1 V1P, 2 V1N, 3 REFCAP, 4 V3P, 5 V3N, 6 AGND, 7 V5P, 8 V5N, 9 AGND, 10 AVCC, 11 V2P, 12 V2N, 13 AGND, 14 V4P, 15 V4N, 16 AVCC, 17 V6P, 18 V6N, 19 GND, 20 CF1, 21 CF2, 22 SLEEP, 23 GND, 24 VCC, 25 CS, 26 SCLK, 27 DIN, 28 DOUT, 29 VDD, 30 OSCI, 31 OSCO, 32 RESET

## IC_HYM3085EESA_SOIC_8_127P
designator U?, comment HYM3085EESA
HAOYU
footprint SOIC_8_127P_HYM3085EESA (SOIC_8_127P)
pins: 1 RO, 2 ~{RE}, 3 DE, 4 DI, 5 GND, 6 A, 7 B, 8 VCC

## IC_LM339DR_SOIC_14_127P
designator U?, comment LM339DR
TI
footprint SOIC_14_127P_LM339DR (SOIC_14_127P)
pins on every part: 3 VCC (power), 12 GND (power)
part A pins: 1 OUT (oc), 6 IN- (in), 7 IN+ (in)
part B pins: 2 OUT (oc), 4 IN- (in), 5 IN+ (in)
part C pins: 8 IN- (in), 9 IN+ (in), 14 OUT (oc)
part D pins: 10 IN- (in), 11 IN+ (in), 13 OUT (oc)

## IC_LM358D_SOIC_8_127P
designator U?, comment LM358DR
TI
footprint SOIC_8_127P_LM358DR (SOIC_8_127P)
pins on every part: 4 V- (power), 8 V+ (power)
part A pins: 1 OUT (out), 2 IN- (in), 3 IN+ (in)
part B pins: 5 IN+ (in), 6 IN- (in), 7 OUT (out)

## IC_MC74HC74ADR2G_SOIC_14_127P
designator U?, comment MC74HC74ADR2G
SOIC_14_127P
footprint SOIC_14_127P_MC74HC74ADR2G (SOIC_14_127P)
pins on every part: 7 GND (power) hidden to GND, 14 VDD (power) hidden to VDD
part A pins: 1 RESET 1 (in), 2 D1 (in), 3 CLK1 (in), 4 SET 1 (in), 5 Q1 (out), 6 ~{Q1} (out)
part B pins: 8 ~{Q2} (out), 9 Q2 (out), 10 SET 2 (in), 11 CLK2 (in), 12 D2 (in), 13 RESET 2 (in)

## IC_N76E003_SOIC_20_065P
designator U?, comment N76E003
Nuvoton 8bit MCU
footprint SOIC_20_065P_N76E003 (SOIC_20_065P)
pins: 1 PWM2/IC6/T0/AIN4/P0.5, 2 TXD/AIN3/P0.6, 3 RXD/AIN2/P0.7, 4 RST/P2.0, 5 INT0/OSCIN/AIN1/P3.0, 6 INT1/AIN0/P1.7, 7 GND, 8 [SDA]/TXD_1/ICPDA/OCDDA/P1.6, 9 VDD, 10 PWM5/IC7/SS/P1.5, 11 P1.4/SDA/FB/PWM1, 12 P1.3/SCL/[STADC], 13 P1.2/PWM0/IC0, 14 P1.1/PWM1/IC1/AIN7/CLO, 15 P1.0/PWM2/IC2/SPCLK, 16 P0.0/PWM3/IC3/MOSI/T1, 17 P0.1/PWM4/IC4/MISO, 18 P0.2/ICPCK/OCDCK/RXD_1/[SCL], 19 P0.3/PWM5/IC5/AIN6, 20 P0.4/AIN5/STADC/PWM3/IC3

## IC_OH34
designator IC?, comment OH34
SOT_23
footprint SOT_23_OH34 (SOT_23)
pins: 1 VCC, 2 GND, 3 Vout
text: H

## IC_PL3106C_LQFP_64_50P
designator U?, comment PL3106C
LQFP_64_50P
footprint LQFP_64_50P_PL3106C (LQFP_64_50P)
pins: 1 P12/RXD1, 2 P13/TXD1, 3 P06/SEG6, 4 P07/SEG7, 5 P14/~{R}/T, 6 P20/SEG8, 7 P21/SEG9, 8 P15/PWM, 9 P22/SEG10, 10 P23/SEG11, 11 P16/IRO, 12 P40//SEG16, 13 P41/SEG17, 14 P17/PSK/T2, 15 XT1i, 16 XT1o, 17 P24/SEG12, 18 P25/SEG13, 19 DGND, 20 DVDD, 21 LCDP, 22 P26/SEG14, 23 P27/SEG15, 24 P35/T1, 25 P42/SEG18, 26 P43/SEG19, 27 P34/T0, 28 P44/SEG20, 29 P45/SEG21, 30 P33/INT1/IRIN2, 31 P32/INT0/IRIN1, 32 P46/SEG22, 33 P47/SEG23, 34 P31/TXD0, 35 P30/RXD0, 36 MCLR, 37 VBAT, 38 XT2o, 39 XT2i, 40 FLTi, 41 AMP1P, 42 AMP1O, 43 AMP2N, 44 FLTo, 45 SIGIN, 46 AMP2O, 47 AGND, 48 CMPI, 49 VREF, 50 ADIN1, 51 ADIN2, 52 AVDD, 53 COM1, 54 COM2, 55 COM3, 56 COM4, 57 P10/SCL, 58 P00/SEG0, 59 P01/SEG1, 60 P11/SDA, 61 P02/SEG2, 62 P03/SEG3, 63 P04/SEG4, 64 P05/SEG5

## IC_PN6367_SOIC_7_127P
designator U?, comment PN6367
Chipown AC-DC
footprint SOIC_7_127P_PN6367 (SOIC_7_127P)
pins: 1 VDD, 2 ZC, 3 FB, 4 CS, 5 SW, 6 SW, 7 GND

## IC_PN7705_SOIC_8_127P
designator U?, comment PN7705
SOIC_8_127P
footprint SOIC_8_127P_PN7705 (SOIC_8_127P)
pins: 1 FAULT, 2 IN1, 3 IN2, 4 ISET, 5 GND, 6 OUT2, 7 OUT1, 8 VCC

## IC_PN8147T_DIP_7
designator U?, comment PN8147T
Chipown AC-DC
footprint DIP_762_7_254P_PN8147T (DIP_762_7_254P)
pins: 1 CS, 2 GND, 3 VDD, 4 COMP, 5 NC, 6 SW, 7 SW

## IC_RN8209C_SOIC_16_127P
designator U?, comment RN8209C
SOIC_16_127P
footprint SOIC_16_127P_RN8209C (SOIC_16_127P)
pins: 1 OSCO, 2 PF, 3 QF, 4 AVDD, 5 V1P, 6 V1N, 7 V2P, 8 V2N, 9 V3P, 10 V3N, 11 REFV, 12 TX, 13 RX/RST_N, 14 GND, 15 DVDD, 16 OSCI

## IC_RN8302B_LQFP_44_80P
designator U?, comment RN8302B
LQFP_44_80P_12_12
footprint LQFP_44_80P_RN8302B (LQFP_44_80P_12_12)
pins: 1 NC1, 2 NC2, 3 REFV, 4 IAP, 5 IAN, 6 AGND, 7 IBP, 8 IBN, 9 AVCC, 10 ICP, 11 ICN, 12 VAP, 13 VAN, 14 VBP, 15 VBN, 16 VCP, 17 VCN, 18 INP, 19 INN, 20 RA, 21 NC3, 22 CTT, 23 CF4, 24 CF3, 25 CF2, 26 CF1, 27 RSTN, 28 DVCC, 29 DGND, 30 NC4, 31 INTN, 32 SDO, 33 SCLK, 34 SCSN, 35 SDI, 36 XO, 37 XI, 38 VO, 39 DGND, 40 DVCC, 41 RB, 42 PM, 43 RC, 44 NC5

## IR_HS138L-W
designator IR?, comment HS138L-W
IR Receive Mode
footprint IR_HS138L-W (IR Receive Mode)
pins: 1 OUT, 2 GND, 3 VCC

## IR_HS205B
designator IR?, comment HS205B
5.0mm Round Type
footprint IR_HS205B (5.0mm Round Type)
pins: 1, 2

## JUMP_2S
designator J?, comment JUMP  (no BOM)
JUMP_2S
footprint JUMP_2S
pins: 1, 2

## JUMP_3S
designator J?, comment JUMP  (no BOM)
JUMP_3S
footprint JUMP_3S
pins: 1, 2, 3

## KEY_3_SMD_MSK_12D18A
designator KEY?, comment MSK-12D18A
footprint KEY_3_SMD_MSK_12D18A (MSK-12D18A)
pins: 1, 2, 3

## KEY_4_SMD_6MM_6MM_5MM
designator KEY?, comment 6x6x5
footprint KEY_4_SMD_6MM_6MM_5MM (6MM_6MM_5MM)
pins: 1, 2, 3, 4

## KEY_6_DIP_6MM_6MM_15MM
designator KEY?, comment 6x6x15
footprint KEY_6_DIP_6MM_6MM_15MM (6MM_6MM_15MM)
pins: 1, 2, 3, 4, 5, 6

## L_AL0510_102
designator L?, comment AL0510-102K
AL0510
footprint L_AL0510_102 (AL0510-102K)
pins: 1, 2

## L_BMRF00101040220MA1
designator L?, comment BMRF00101040220MA1
ChiLiSin BMRx Series
footprint L_BMRF00101040
pins: 1, 2

## L_LGB0608-180K_L_LGB0608
designator L?, comment LGB0608-180K
L_LGB0608
footprint L_LGB0608 (LGB0608)
pins: 1, 2

## L_Zl453232-102J_1812
designator L?, comment Zl453232-102J
1812
footprint L_1812
pins: 1, 2

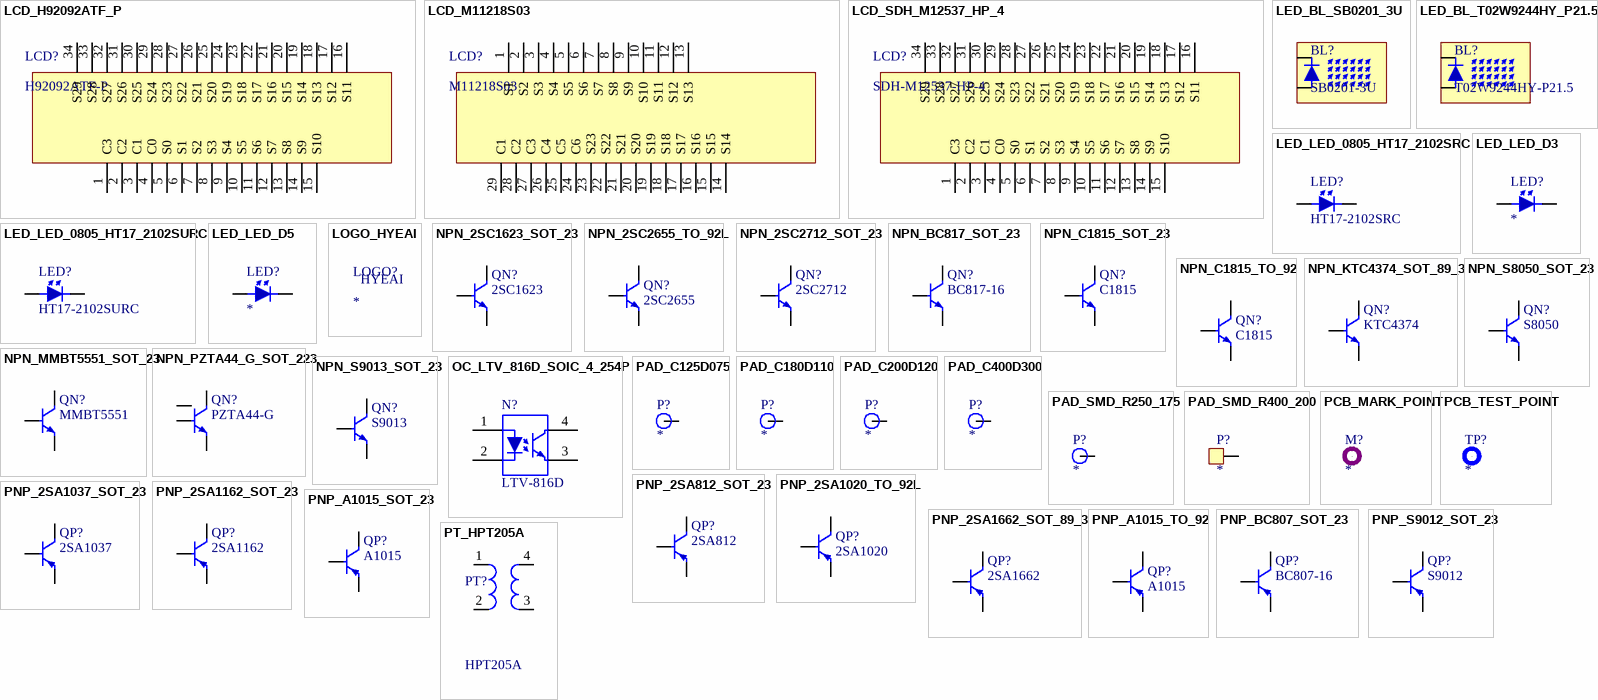
[diagram p5: symbols LCD_H92092ATF_P to PT_HPT205A]

## LCD_H92092ATF_P
designator LCD?, comment H92092ATF-P
LCD
footprint LCD_H92092ATF_P (LCD)
pins: 1 C3, 2 C2, 3 C1, 4 C0, 5 S0, 6 S1, 7 S2, 8 S3, 9 S4, 10 S5, 11 S6, 12 S7, 13 S8, 14 S9, 15 S10, 16 S11, 17 S12, 18 S13, 19 S14, 20 S15, 21 S16, 22 S17, 23 S18, 24 S19, 25 S20, 26 S21, 27 S22, 28 S23, 29 S24, 30 S25, 31 S26, 32 S27, 33 S28, 34 S29

## LCD_M11218S03
designator LCD?, comment M11218S03
LCD
footprint LCD_M11218S03 (LCD)
pins: 1 S1, 2 S2, 3 S3, 4 S4, 5 S5, 6 S6, 7 S7, 8 S8, 9 S9, 10 S10, 11 S11, 12 S12, 13 S13, 14 S14, 15 S15, 16 S16, 17 S17, 18 S18, 19 S19, 20 S20, 21 S21, 22 S22, 23 S23, 24 C6, 25 C5, 26 C4, 27 C3, 28 C2, 29 C1

## LCD_SDH_M12537_HP_4
designator LCD?, comment SDH-M12537-HP-4
LCD
footprint LCD_SDH_M12537_HP_4 (LCD)
pins: 1 C3, 2 C2, 3 C1, 4 C0, 5 S0, 6 S1, 7 S2, 8 S3, 9 S4, 10 S5, 11 S6, 12 S7, 13 S8, 14 S9, 15 S10, 16 S11, 17 S12, 18 S13, 19 S14, 20 S15, 21 S16, 22 S17, 23 S18, 24 S19, 25 S20, 26 S21, 27 S22, 28 S23, 29 S24, 30 S25, 31 S26, 32 S27, 33 S28, 34 S29

## LED_BL_SB0201_3U
designator BL?, comment SB0201-3U
LED BACKLIGHT FOR LCD DISPLAY
footprint LED_BL_SB0201_3U (LED BACKLIGHT FOR LCD DISPLAY)
pins: 1, 2

## LED_BL_T02W9244HY_P21.5
designator BL?, comment T02W9244HY-P21.5
LED BACKLIGHT FOR LCD DISPLAY
footprint LED_BL_T02W9244HY_P21.5 (LED BACKLIGHT FOR LCD DISPLAY)
pins: 1, 2

## LED_LED_0805_HT17_2102SRC
designator LED?, comment HT17-2102SRC
HARVATEK 0805 LED RED
footprint LED_0805_HT17_2102SRC (0805)
pins: 1, 2

## LED_LED_0805_HT17_2102SURC
designator LED?, comment HT17-2102SURC
HARVATEK 0805 LED Red High Light
footprint LED_0805_HT17_2102SURC (0805)
pins: 1, 2

## LED_LED_D3
designator LED?
3.0mm Round Type
footprint LED_D3 (3.0mm Round Type)
pins: 1, 2

## LED_LED_D5
designator LED?
5.0mm Round Type
footprint LED_D5 (5.0mm Round Type)
pins: 1, 2

## LOGO_HYEAI
designator LOGO?  (no BOM)
HYEAI
footprint LOGO_HYEAI (LOGO)

## NPN_2SC1623_SOT_23
designator QN?, comment 2SC1623
SOT_23
footprint SOT_23_2SC1623 (SOT_23)
pins: 1 B, 2 E, 3 C

## NPN_2SC2655_TO_92L
designator QN?, comment 2SC2655
TO_92L
footprint TO_92L
pins: 1 e, 2 c, 3 b

## NPN_2SC2712_SOT_23
designator QN?, comment 2SC2712
SOT_23
footprint SOT_23_2SC2712 (SOT_23)
pins: 1 B, 2 E, 3 C

## NPN_BC817_SOT_23
designator QN?, comment BC817-16
SOT_23
footprint SOT_23_BC817 (SOT_23)
pins: 1 B, 2 E, 3 C

## NPN_C1815_SOT_23
designator QN?, comment C1815
SOT_23
footprint SOT_23_C1815 (SOT_23)
pins: 1 B, 2 E, 3 C

## NPN_C1815_TO_92
designator QN?, comment C1815
TO_92
footprint TO_92
pins: 1 e, 2 c, 3 b

## NPN_KTC4374_SOT_89_3
designator QN?, comment KTC4374
SOT_89_3
footprint SOT_89_3_KTC4374 (SOT_89_3)
pins: 1 B, 2 C, 3 E

## NPN_MMBT5551_SOT_23
designator QN?, comment MMBT5551
SOT_23
footprint SOT_23_MMBT5551 (SOT_23)
pins: 1 B, 2 E, 3 C

## NPN_PZTA44_G_SOT_223
designator QN?, comment PZTA44-G
SOT_223
footprint SOT_223_PZTA44_G (SOT_223)
pins: 1 B, 2 C, 3 E, 4

## NPN_S8050_SOT_23
designator QN?, comment S8050
SOT_23
footprint SOT_23_S8050 (SOT_23)
pins: 1 B, 2 E, 3 C

## NPN_S9013_SOT_23
designator QN?, comment S9013
JCET
footprint SOT_23_S9013 (SOT_23)
pins: 1 B, 2 E, 3 C

## OC_LTV_816D_SOIC_4_254P
designator N?, comment LTV-816D
LITEON
footprint SOIC_4_254P_LTV_816S_TA1 (SOIC_4_254P  9.2mm)
pins: 1, 2, 3, 4

## PAD_C125D075
designator P?  (no BOM)
c125d075
footprint PAD_C125D075 (c125d075)
pins: 1

## PAD_C180D110
designator P?  (no BOM)
c180d110
footprint PAD_C180D110 (c180d110)
pins: 1

## PAD_C200D120
designator P?  (no BOM)
c200d120
footprint PAD_C200D120 (c200d120)
pins: 1

## PAD_C400D300
designator P?  (no BOM)
c400d300
footprint PAD_C400D300 (c400d300)
pins: 1

## PAD_SMD_R250_175
designator P?  (no BOM)
PAD_SMD_R250_175
footprint PAD_SMD_R250_175 (R250_175)
pins: 1

## PAD_SMD_R400_200
designator P?  (no BOM)
PAD_SMD_R400_200
footprint PAD_SMD_R400_200 (R400_200)
pins: 1

## PCB_MARK_POINT
designator M?  (no BOM)
MARK POINT
footprint PCB_MARK_POINT (MARK POINT)
pins: 0

## PCB_TEST_POINT
designator TP?  (no BOM)
TEST POINT
footprint PCB_TEST_POINT (TEST_POINT)
pins: 0

## PNP_2SA812_SOT_23
designator QP?, comment 2SA812
JCST
footprint SOT_23_2SA812 (SOT_23)
pins: 1 B, 2 E, 3 C

## PNP_2SA1020_TO_92L
designator QP?, comment 2SA1020
TO_92L
footprint TO_92L
pins: 1 e, 2 c, 3 b

## PNP_2SA1037_SOT_23
designator QP?, comment 2SA1037
SOT_23
footprint SOT_23_2SA1037 (SOT_23)
pins: 1 B, 2 E, 3 C

## PNP_2SA1162_SOT_23
designator QP?, comment 2SA1162
SOT_23
footprint SOT_23_2SA1162 (SOT_23)
pins: 1 B, 2 E, 3 C

## PNP_2SA1662_SOT_89_3
designator QP?, comment 2SA1662
SOT_89_3
footprint SOT_89_3_2SA1662 (SOT_89_3)
pins: 1 B, 2 C, 3 E

## PNP_A1015_SOT_23
designator QP?, comment A1015
SOT_23
footprint SOT_23_A1015 (SOT_23)
pins: 1 B, 2 E, 3 C

## PNP_A1015_TO_92
designator QP?, comment A1015
TO_92
footprint TO_92
pins: 1 e, 2 c, 3 b

## PNP_BC807_SOT_23
designator QP?, comment BC807-16
SOT_23
footprint SOT_23_BC807 (SOT_23)
pins: 1 B, 2 E, 3 C

## PNP_S9012_SOT_23
designator QP?, comment S9012
JCET
footprint SOT_23_S9012 (SOT_23)
pins: 1 B, 2 E, 3 C

## PT_HPT205A
designator PT?, comment HPT205A
footprint PT_HPT205A (HPT205A)
pins: 1, 2, 3, 4

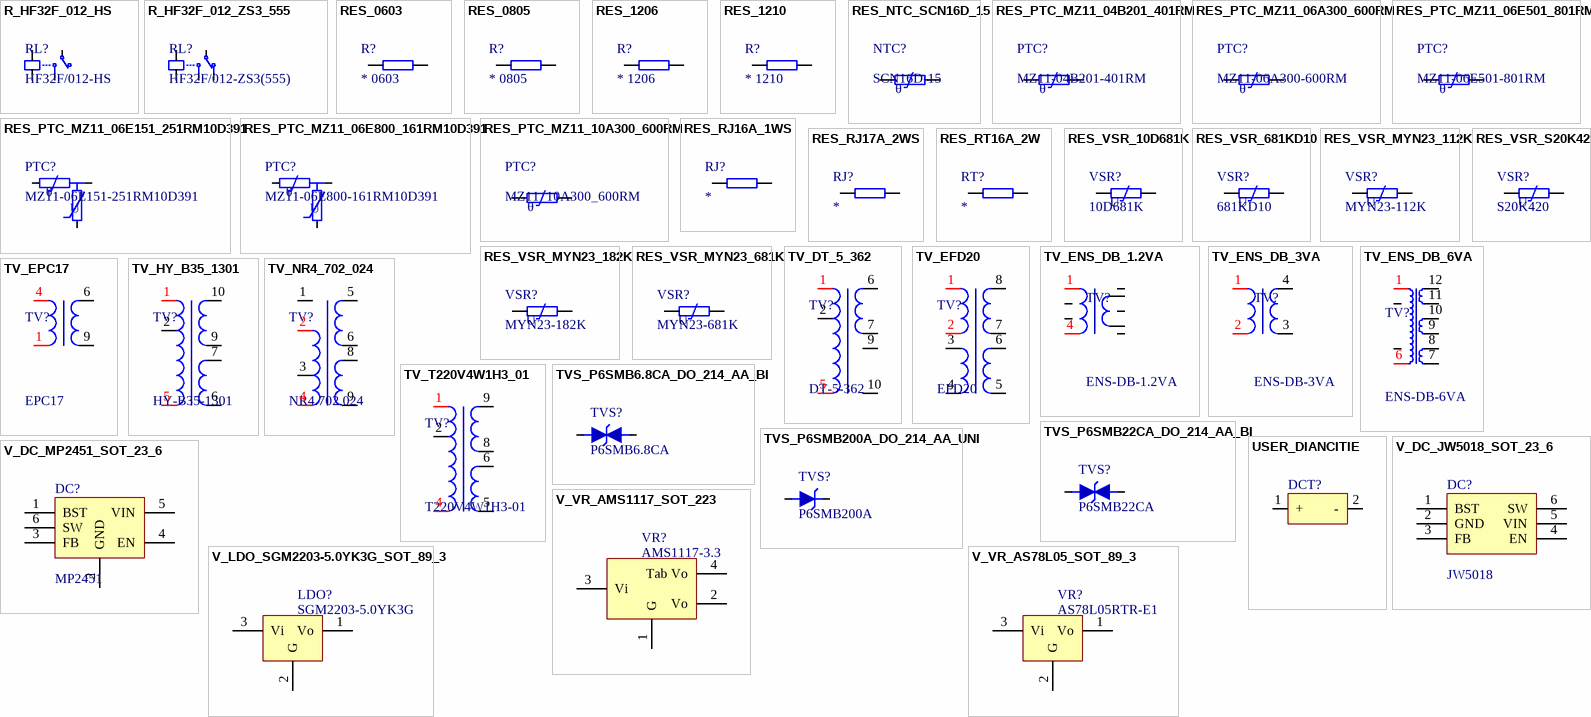
[diagram p6: symbols R_HF32F_012_HS to V_VR_AS78L05_SOT_89_3]

## R_HF32F_012_HS
designator RL?, comment HF32F/012-HS
HF
footprint HF32F_012_HS3
pins: 1, 2, 4, 5

## R_HF32F_012_ZS3_555
designator RL?, comment HF32F/012-ZS3(555)
HF
footprint HF32F_012_ZS3_555
pins: 1, 2, 3, 4, 5

## RES_0603
designator R?, comment * 0603
Yageo 1/10W
footprint RES_0603 (0603)
pins: 1, 2

## RES_0805
designator R?, comment * 0805
Yageo 1/8W
footprint RES_0805 (0805)
pins: 1, 2

## RES_1206
designator R?, comment * 1206
Yageo 1/4W
footprint RES_1206 (1206)
pins: 1, 2

## RES_1210
designator R?, comment * 1210
Yageo 1/10W
footprint RES_1210 (1210)
pins: 1, 2

## RES_NTC_SCN16D_15
designator NTC?, comment SCN16D-15
SOCYA
footprint NTC_SCNXXD_15 (NTC)
pins: 1, 2
text: θ

## RES_PTC_MZ11_04B201_401RM
designator PTC?, comment MZ11-04B201-401RM
PTC_MZ11_04B201_401RM
footprint PTC_MZ11_04B201_401RM (PTC)
pins: 1, 2
text: θ

## RES_PTC_MZ11_06A300_600RM
designator PTC?, comment MZ11-06A300-600RM
PTC_MZ11_06A300_600RM
footprint PTC_MZ11_06A300_600RM (PTC)
pins: 1, 2
text: θ

## RES_PTC_MZ11_06E151_251RM10D391
designator PTC?, comment MZ11-06E151-251RM10D391
PTC_MZ11-06E151-251RM10D391
footprint PTC_MZ11_06E151_251RM10D391 (PTC)
pins: 1, 2, 3
text: θ; U

## RES_PTC_MZ11_06E501_801RM
designator PTC?, comment MZ11-06E501-801RM
PTC_MZ11_06E501_801RM
footprint PTC_MZ11_06E501_801RM (PTC)
pins: 1, 2
text: θ

## RES_PTC_MZ11_06E800_161RM10D391
designator PTC?, comment MZ11-06E800-161RM10D391
PTC_MZ11-06E800-161RM10D391
footprint PTC_MZ11_06E151_251RM10D391 (PTC)
pins: 1, 2, 3
text: θ; U

## RES_PTC_MZ11_10A300_600RM
designator PTC?, comment MZ11_10A300_600RM
PTC_MZ11_10A300_600RM
footprint PTC_MZ11_10A300_600RM (PTC)
pins: 1, 2
text: θ

## RES_RJ16A_1WS
designator RJ?
VAST Metal Film Resistor 1W
footprint RES_039_105_D050_W (Metal Film Resistor 1W)
pins: 1, 2

## RES_RJ17A_2WS
designator RJ?
VAST Metal Film Resistor 2W
footprint RES_049_130_D065_W (Carbon Film Resistor 2W)
pins: 1, 2

## RES_RT16A_2W
designator RT?
VAST Carbon Film Resistor 2W
footprint RES_049_130_D065_W (Carbon Film Resistor 2W)
footprint RES_049_130_D065 (Carbon Film Resistor 2W)
pins: 1, 2

## RES_VSR_10D681K
designator VSR?, comment 10D681K
VR_ZOV10D_681K
footprint VR_ZOV10D_681K (Varistor)
pins: 1, 2
text: U

## RES_VSR_681KD10
designator VSR?, comment 681KD10
BrightKing
footprint VR_681KD10 (Varistor)
pins: 1, 2
text: U

## RES_VSR_MYN23_112K
designator VSR?, comment MYN23-112K
Tieda
footprint VR_MYN23_112K (Varistor)
pins: 1, 2
text: U

## RES_VSR_MYN23_182K
designator VSR?, comment MYN23-182K
Tieda
footprint VR_MYN23_182K (Varistor)
pins: 1, 2
text: U

## RES_VSR_MYN23_681K
designator VSR?, comment MYN23-681K
Tieda
footprint VR_MYN23_681K (Varistor)
pins: 1, 2
text: U

## RES_VSR_S20K420
designator VSR?, comment S20K420
VR_S20K420
footprint VR_S20K420 (Varistor)
pins: 1, 2
text: U

## TV_DT_5_362
designator TV?, comment DT-5-362
footprint TV_DT_5_362
pins: 1, 2, 5, 6, 7, 9, 10

## TV_EFD20
designator TV?, comment EFD20
footprint TV_EFD20
pins: 1, 2, 3, 4, 5, 6, 7, 8

## TV_ENS_DB_1.2VA
designator TV?, comment ENS-DB-1.2VA
TV_ENS_DB_1.2VA
footprint TV_ENS_DB_1.2VA
pins: 1, 2, 3, 4, 5, 6, 7, 8, 9

## TV_ENS_DB_3VA
designator TV?, comment ENS-DB-3VA
TV_ENS_DB_3VA
footprint TV_ENS_DB_3VA
pins: 1, 2, 3, 4

## TV_ENS_DB_6VA
designator TV?, comment ENS-DB-6VA
TV_ENS_DB_6VA
footprint TV_ENS_DB_6VA
pins: 1, 2, 5, 6, 7, 8, 9, 10, 11, 12

## TV_EPC17
designator TV?, comment EPC17
DT-5-362
pins: 1, 4, 6, 9

## TV_HY_B35_1301
designator TV?, comment HY-B35-1301
TV_HY_B35_1301
footprint TV_HY_B35_1301
pins: 1, 2, 5, 6, 7, 9, 10

## TV_NR4_702_024
designator TV?, comment NR4.702.024
TV_NR4_702_024
footprint TV_NR4_702_024 (TV_NR4.702.024)
pins: 1, 2, 3, 4, 5, 6, 8, 9

## TV_T220V4W1H3_01
designator TV?, comment T220V4W1H3-01
TV_T220V4W1H3_01
footprint TV_T220V4W1H3_01
pins: 1, 2, 4, 5, 6, 8, 9

## TVS_P6SMB6.8CA_DO_214_AA_BI
designator TVS?, comment P6SMB6.8CA
Leading
footprint DO_214_AA_BI (DO_214_AA  SMB)
pins: 1, 2

## TVS_P6SMB22CA_DO_214_AA_BI
designator TVS?, comment P6SMB22CA
Leading
footprint DO_214_AA_BI (DO_214_AA  SMB)
pins: 1, 2

## TVS_P6SMB200A_DO_214_AA_UNI
designator TVS?, comment P6SMB200A
Leading
footprint DO_214_AA_UNI (DO_214_AA  SMB)
pins: 1, 2

## USER_DIANCITIE
designator DCT?
电磁铁
footprint USER_DIANCITIE
pins: 1 +, 2 -

## V_DC_JW5018_SOT_23_6
designator DC?, comment JW5018
SOT_23_6
footprint SOT_23_6_JW5018 (SOT_23_6)
pins: 1 BST, 2 GND, 3 FB, 4 EN, 5 VIN, 6 SW

## V_DC_MP2451_SOT_23_6
designator DC?, comment MP2451
SOT_23_6
footprint SOT_23_6_MP2451 (SOT_23_6)
pins: 1 BST, 2 GND, 3 FB, 4 EN, 5 VIN, 6 SW

## V_LDO_SGM2203-5.0YK3G_SOT_89_3
designator LDO?, comment SGM2203-5.0YK3G
SOT_89_3
footprint SOT_89_3_SGM2203 (SOT_89_3)
pins: 1 Vo, 2 G, 3 Vi

## V_VR_AMS1117_SOT_223
designator VR?, comment AMS1117-3.3
AMS
footprint SOT_223_AMS1117 (SOT_223)
pins: 1 G, 2 Vo, 3 Vi, 4 Tab Vo

## V_VR_AS78L05_SOT_89_3
designator VR?, comment AS78L05RTR-E1
DIODES
footprint SOT_89_3_AS78LXX (SOT_89_3)
pins: 1 Vo, 2 G, 3 Vi

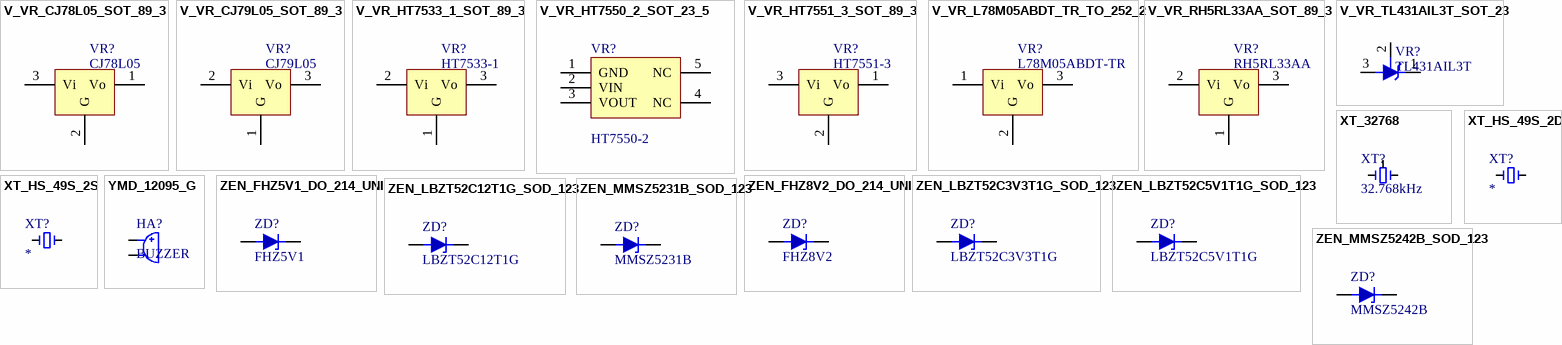
[diagram p7: symbols V_VR_CJ78L05_SOT_89_3 to ZEN_MMSZ5242B_SOD_123]

## V_VR_CJ78L05_SOT_89_3
designator VR?, comment CJ78L05
JCST
footprint SOT_89_3_CJ78LXX (SOT_89_3)
pins: 1 Vo, 2 G, 3 Vi

## V_VR_CJ79L05_SOT_89_3
designator VR?, comment CJ79L05
JCST
footprint SOT_89_3_CJ79LXX (SOT_89_3)
pins: 1 G, 2 Vi, 3 Vo

## V_VR_HT7533_1_SOT_89_3
designator VR?, comment HT7533-1
HOLTEK
footprint SOT_89_3_HT75XX_1 (SOT_89_3)
pins: 1 G, 2 Vi, 3 Vo

## V_VR_HT7550_2_SOT_23_5
designator VR?, comment HT7550-2
HOLTEK
footprint SOT_23_5_HT7550_2 (SOT_23_5)
pins: 1 GND, 2 VIN, 3 VOUT, 4 NC, 5 NC

## V_VR_HT7551_3_SOT_89_3
designator VR?, comment HT7551-3
HOLTEK
footprint SOT_89_3_HT7551_3 (SOT_89_3)
pins: 1 Vo, 2 G, 3 Vi

## V_VR_L78M05ABDT_TR_TO_252_2
designator VR?, comment L78M05ABDT-TR
ST
footprint TO_252_2_CJ78MXX (TO_252_2    DPAK)
pins: 1 Vi, 2 G, 3 Vo

## V_VR_RH5RL33AA_SOT_89_3
designator VR?, comment RH5RL33AA
SOT_89_3
footprint SOT_89_3_RH5RLXXAA (SOT_89_3)
pins: 1 G, 2 Vi, 3 Vo

## V_VR_TL431AIL3T_SOT_23
designator VR?, comment TL431AIL3T
ST 1%
footprint SOT_23_TL431 (SOT_23)
pins: 1 Cathode, 2 Ref, 3 Anode

## XT_32768
designator XT?, comment 32.768kHz
SEIKO Crystal
footprint XT_VT_200_F (32768Hz)
pins: 0, 1, 2

## XT_HS_49S_2D
designator XT?
XT_HS_49S_2D
footprint XT_HS_49S_2D (DIP Quartz Crystals)
pins: 1, 2

## XT_HS_49S_2S
designator XT?
XT_HS_49S_2S
footprint XT_HS_49S_2S (SMD Quartz Crystals)
pins: 1, 2

## YMD_12095_G
designator HA?, comment BUZZER
YMD-12095-G
footprint YMD_12095_G
pins: 1, 2

## ZEN_FHZ5V1_DO_214_UNI
designator ZD?, comment FHZ5V1
DO_214_UNI
footprint DO_214_AC_UNI (DO_214_AC SMA)
pins: 1, 2

## ZEN_FHZ8V2_DO_214_UNI
designator ZD?, comment FHZ8V2
DO_214_UNI
footprint DO_214_AC_UNI (DO_214_AC SMA)
pins: 1, 2

## ZEN_LBZT52C3V3T1G_SOD_123
designator ZD?, comment LBZT52C3V3T1G
SOD_123
footprint SOD_123_LBZT52C2V4T1G (SOD-123)
pins: 1, 2

## ZEN_LBZT52C5V1T1G_SOD_123
designator ZD?, comment LBZT52C5V1T1G
SOD_123
footprint SOD_123_LBZT52C2V4T1G (SOD-123)
pins: 1, 2

## ZEN_LBZT52C12T1G_SOD_123
designator ZD?, comment LBZT52C12T1G
SOD_123
footprint SOD_123_LBZT52C2V4T1G (SOD-123)
pins: 1, 2

## ZEN_MMSZ5231B_SOD_123
designator ZD?, comment MMSZ5231B
SOD_123
footprint SOD_123_MMSZ5242B (SOD-123)
pins: 1, 2

## ZEN_MMSZ5242B_SOD_123
designator ZD?, comment MMSZ5242B
SOD_123
footprint SOD_123_MMSZ5242B (SOD-123)
pins: 1, 2